# EAGLE library part UDN2981A-T (library Allegro_By_element14_Batch_1)
8-Channel Source Drivers
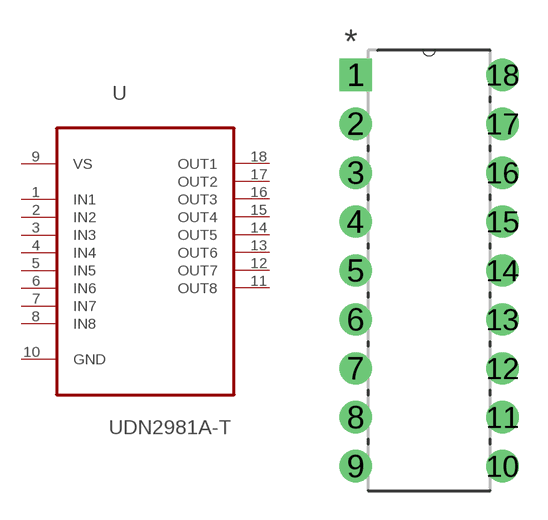
[diagram p38: symbol with the pads of DIP254P762X533-18; footprint DIP254P762X533-18]

Designator prefix U

## UDN2981A-T (MPN: UDN2981A-T; OC_FARNELL: 1193495; OC_NEWARK: 31K7841; PACKAGE: PDIP-18; SUPPLIER: ALLEGRO MICROSYSTEMS)  [DIP254P762X533-18]
1  IN1  in
2  IN2  in
3  IN3  in
4  IN4  in
5  IN5  in
6  IN6  in
7  IN7  in
8  IN8  in
9  VS  pwr
10  GND  pas
11  OUT8  out
12  OUT7  out
13  OUT6  out
14  OUT5  out
15  OUT4  out
16  OUT3  out
17  OUT2  out
18  OUT1  out

## Footprint DIP254P762X533-18 (pad centres in mm)
drill 1.118 square: 1 -7.62,20.32
drill 1.118: 2 -7.62,17.78; 3 -7.62,15.24; 4 -7.62,12.7; 5 -7.62,10.16; 6 -7.62,7.62; 7 -7.62,5.08; 8 -7.62,2.54; 9 -7.62,0; 10 0,0; 11 0,2.54; 12 0,5.08; 13 0,7.62; 14 0,10.16; 15 0,12.7; 16 0,15.24; 17 0,17.78; 18 0,20.32